# Altium schematic symbol library transistor.SchLib: 24 symbols
Pins are listed as number, name and electrical type; pins without a type are passive.

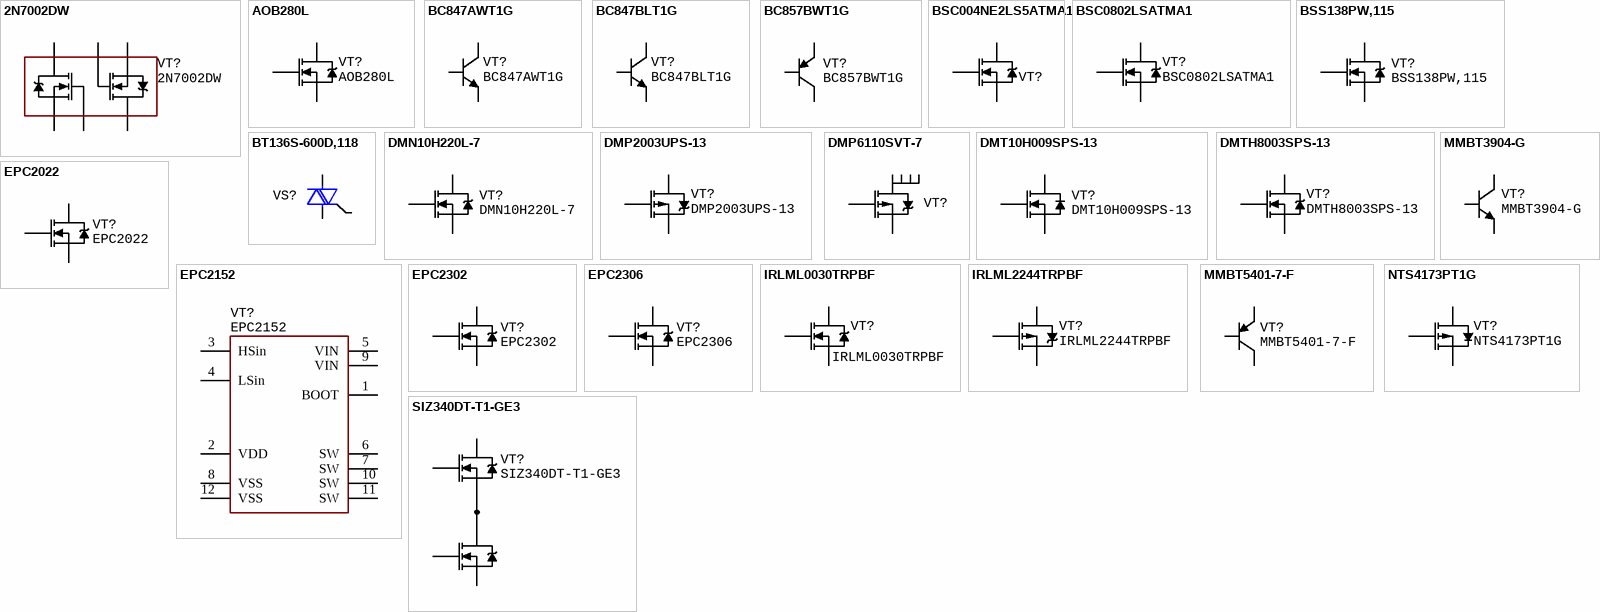
[diagram p0: symbols 2N7002DW to SIZ340DT-T1-GE3]

## 2N7002DW
designator VT?
Dual N-MOSFET, 60V, 7.5 Ohms, 2.6 nC, 1.3W, 115mA, SOT-363, -55...+150°C; Manufacturer: ON Semiconductor; Manufacturer: ON Semiconductor / Fairchild; HelpURL: https://ru.mouser.com/ProductDetail/onsemi/2N7002DW?qs=sGAEpiMZZMsKEdP9slC0YXTftDasax%2F85Ug%252BGeYsEGA%3D; Package: SOT-363; Manufacturer Part Number: 2N7002DW; Component Type: Transistors; PartNumber: 2N7002DW
footprint SC70-6
pins: 1 S, 2 G, 3 D, 4 S, 5 G, 6 D

## AOB280L
designator VT?
N-MOSFET, 80V, 2.2 mOhms, 224 nC, 2.1W, 20.5A, D2Pak, -55...+175°C; Manufacturer: Alpha & Omega; Manufacturer: Alpha & Omega Semiconductor; HelpURL: https://www.digikey.com/en/products/detail/alpha-omega-semiconductor-inc/AOB280L/4860555?s=N4IgTCBcDaIIIHkBCYAcAGAMiAugXyA; Package: D2Pak; Manufacturer Part Number: AOB280L; Component Type: Transistors; PartNumber: AOB280L
footprint D2PAK
pins: 1 G, 2 D, 3 S

## BC847AWT1G
designator VT?
NPN, 45V, 100mA, 100MHz, SC-70, -55...+150°C; Manufacturer: ON Semiconductor; Package: SC-70; HelpURL: https://ru.mouser.com/ProductDetail/onsemi/BC847AWT1G?qs=vNc2DXHODiLhGeJiJa%252BVKw%3D%3D; Manufacturer Part Number: BC847AWT1G; Component Type: Transistors; PartNumber: BC847AWT1G
footprint SC-70
pins: 1 B, 2 E, 3 C

## BC847BLT1G
designator VT?
NPN, 45V, 100mA, 100MHz, SOT-23, -55...+150°C; Manufacturer: ON Semiconductor; Package: SOT-23; HelpURL: https://eu.mouser.com/ProductDetail/onsemi/BC847BLT1G?qs=vNc2DXHODiLAH81QlkcRzw%3D%3D; Manufacturer Part Number: BC847BLT1G; Component Type: Transistors; PartNumber: BC847BLT1G
footprint SOT23
pins: 1 B, 2 E, 3 C

## BC857BWT1G
designator VT?
PNP, 45V, 100mA, 100MHz, SC-70, -55...+150°C; Manufacturer: ON Semiconductor; HelpURL: https://www.digikey.com/en/products/detail/on-semiconductor/BC857BWT1G/1476075; Package: SC-70; PartNumber: BC857BWT1G
footprint SC-70
pins: 1 B, 2 E, 3 C

## BSC004NE2LS5ATMA1
designator VT?  (value not drawn)
N-MOSFET, 25V, 0.45 mOhms, 238 nC, 2.5W, 100A, TDSON-8, -55...+150°C; Manufacturer: Infineon; Manufacturer Part Number: BSC0802LSATMA1; PartNumber: BSC004NE2LS5ATMA1; Package: TDSON-8; HelpURL: https://ru.mouser.com/ProductDetail/Infineon-Technologies/BSC004NE2LS5ATMA1?qs=%2Fha2pyFaduisj%252Bu93%252BVY%252Be%252BitOArOKCdm4Q0aqLD3LIwsnREKUbWWYvid3d3v2j%252B; Component Type: Transistors
footprint 8-TDSON (pitch 1.3 mm, power pad)
pins: 1 G, 2 D, 3 S

## BSC0802LSATMA1
designator VT?
N-MOSFET, 100V, 3.5 mOhms, 37 nC, 2.5W, 100A, TDSON-8, -55...+150°C; Manufacturer: Infineon; Package: TDSON-8; HelpURL: https://ru.mouser.com/ProductDetail/Infineon-Technologies/BSC0802LSATMA1?qs=GedFDFLaBXH2UY49TJwfpg%3D%3D; Manufacturer Part Number: BSC0802LSATMA1; Component Type: Transistors; PartNumber: BSC0802LSATMA1
footprint 8-TDSON (pitch 1.3 mm, power pad)
pins: 1 G, 2 D, 3 S

## BSS138PW,115
designator VT?
N-MOSFET, 60V, 300mA, 1.6 Ohm, 0.8nC, 50pF, SC-70, -55...+150°C; Manufacturer: Nexperia; HelpURL: https://www.digikey.com/en/products/detail/nexperia-usa-inc/BSS138PW-115/2779826; Package: SC-70; Manufacturer Part Number: BSS138PW,115; Component Type: Transistors; PartNumber: BSS138PW,115
footprint SC-70
pins: 1 G, 2 S, 3 D

## BT136S-600D,118
designator VS?  (value not drawn)
TRIAC, 600V, 4A, 1.4V, 10mA, Dpak, -40...+125°C; Manufacturer: WeEn; Manufacturer: International Rectifier; Manufacturer Part Number: IRLML2244TRPBF; HelpURL: https://eu.mouser.com/ProductDetail/WeEn-Semiconductors/BT136S-600D118?qs=me8TqzrmIYV4bBAqsrM%2FiQ%3D%3D; Package: Dpak; PartNumber: BT136S-600D,118; Component Type: Transistors
footprint DPAK
pins: 1, 2, 3

## DMN10H220L-7
designator VT?
N-MOSFET, 100V, 220 mOhms, 8.3 nC, 1.3W, 1.6A, SOT-23, -55...+150°C; Manufacturer: Diodes; HelpURL: https://ru.mouser.com/ProductDetail/Diodes-Incorporated/DMN10H220L-7?qs=M%2FOdCRO8QQ1UQcucluOqow%3D%3D; Package: SOT-23; Manufacturer Part Number: DMN10H220L-7; Component Type: Transistors; PartNumber: DMN10H220L-7
footprint SOT23
pins: 1 G, 2 S, 3 D

## DMP2003UPS-13
designator VT?
P-MOSFET, 20V, 150A, 1,7mOhm, 177nC, 570pF, 8-TDSON, -55...+150°C; Manufacturer: Diodes; HelpURL: https://nl.mouser.com/ProductDetail/Diodes-Incorporated/DMP2003UPS-13?qs=W0yvOO0ixfGERcy1OHQXQg%3D%3D; Package: 8-TDSON; PartNumber: DMP2003UPS-13
footprint 8-TDSON (pitch 1.3 mm, power pad)
pins: 1 G, 2 D, 3 S

## DMP6110SVT-7
designator VT?  (value not drawn)
P-MOSFET, 60V, 7.3A, 105mOhm, 17.2nC, 969pF, SOT-23-6, -55...+150°C; Manufacturer: Infineon Technologies; Manufacturer: Diodes; PartNumber: DMP6110SVT-7; Package: SOT-23-6; HelpURL: https://www.digikey.com/product-detail/en/infineon-technologies/IRLML2246TRPBF/IRLML2246TRPBFCT-ND/2639576; Manufacturer Part Number: DMP6110SVT-7; Component Type: Transistors
footprint SOT23-6 (pitch 0.95 mm)
pins: 1 D, 2 D, 3 G, 4 S, 5 D, 6 D

## DMT10H009SPS-13
designator VT?
N-MOSFET, 100V, 8.5 mOhms, 30 nC, 2.5W, 80A, TDSON-8, -55...+150°C; Manufacturer: Diodes; Package: TDSON-8; HelpURL: https://eu.mouser.com/ProductDetail/Diodes-Incorporated/DMT10H009SPS-13?qs=gZXFycFWdAPn%252Bp%2Fd1wMNwg%3D%3D; PartNumber: DMT10H009SPS-13
footprint 8-TDSON (pitch 1.3 mm, power pad)
pins: 1 G, 2 D, 3 S

## DMTH8003SPS-13
designator VT?
N-MOSFET, 80V, 3.9 mOhms, 124 nC, 2.5W, 100A, TDSON-8, -55...+175°C; Manufacturer: Diodes; Package: TDSON-8; HelpURL: https://nl.mouser.com/ProductDetail/Diodes-Incorporated/DMTH8003SPS-13?qs=fAHHVMwC%252BbjFPwZ285SuFQ%3D%3D; PartNumber: DMTH8003SPS-13
footprint 8-TDSON (pitch 1.3 mm, power pad)
pins: 1 G, 2 D, 3 S

## EPC2022
designator VT?
GaN, 100V, 3.2 mOhms, 13 nC, 90A, case 6.05x2.3 mm, -40...+150°C; Manufacturer: EPC; Package: 6.05x2.3 mm; HelpURL: https://epc-co.com/epc/Products/eGaNFETsandICs/EPC2022.aspx; Manufacturer Part Number: EPC2022; Component Type: Transistors; PartNumber: EPC2022
footprint EPC2022 (GaN, 6.05x2.3)
pins: 1 G, 2 D, 3 S

## EPC2152
designator VT?
GaN, 100V, 1.8 mOhms, 29 nC, 101A, case 5x3 mm, -40...+150°C; Manufacturer: EPC; Package: 4x3 mm; HelpURL: https://epc-co.com/epc/products/gan-fets-and-ics/epc2152; PartNumber: EPC2152
footprint EPC2152
pins: 1 BOOT, 2 VDD, 3 HSin, 4 LSin, 5 VIN, 6 SW, 7 SW, 8 VSS, 9 VIN, 10 SW, 11 SW, 12 VSS

## EPC2302
designator VT?
GaN, 100V, 1.8 mOhms, 29 nC, 101A, case 5x3 mm, -40...+150°C; Manufacturer: EPC; Package: 5x3 mm; HelpURL: https://epc-co.com/epc/products/gan-fets-and-ics/epc2302; PartNumber: EPC2302
footprint EPC2302 (QFN3x5 100V Full Die)
pins: 1 G, 2 S, 3 D

## EPC2306
designator VT?
GaN, 100V, 3.8 mOhms, 29 nC, 48A, case 5x3 mm, -40...+150°C; Manufacturer: EPC; Package: 5x3 mm; HelpURL: https://epc-co.com/epc/products/gan-fets-and-ics/epc2306; PartNumber: EPC2306
footprint EPC2306 (QFN3x5 100V Half Die)
pins: 1 G, 2 S, 3 D

## IRLML0030TRPBF
designator VT?
N-MOSFET, 30V, 27 mOhms, 2.6 nC, 1.3W, 5.3A, SOT-23, -55...+150°C; Manufacturer: Infineon; Manufacturer: International Rectifier; HelpURL: https://ru.mouser.com/ProductDetail/Infineon-IR/IRLML0030TRPBF?qs=%2Fha2pyFaduheTAhzJqsWt8uP6kaFFXPDIBkWUj0rWVXHN0D8P7OuGg%3D%3D; Package: SOT-23; Manufacturer Part Number: IRLML0030TRPBF; Component Type: Transistors; PartNumber: IRLML0030TRPBF
footprint SOT23
pins: 1 G, 2 S, 3 D

## IRLML2244TRPBF
designator VT?
P-MOSFET, 20V, 4.3A, 54mOhm, 6.9nC, 570pF, SOT-23, -55...+150°C; Manufacturer: Infineon Technologies; Manufacturer: International Rectifier; HelpURL: https://www.digikey.com/en/products/detail/infineon-technologies/IRLML2244TRPBF/2639564; Package: SOT-23; PartNumber: IRLML2244TRPBF
footprint SOT23
pins: 1 G, 2 S, 3 D

## MMBT3904-G
designator VT?
NPN, 40V, 200mA, 300MHz, SOT-23, -55...+150°C; Manufacturer: Comchip; HelpURL: https://ru.mouser.com/ProductDetail/Comchip-Technology/MMBT3904-G?qs=2qJf6qQ4IOJ0TxLo2V5E6Q%3D%3D; Package: SOT-23; Manufacturer Part Number: MMBT3904-G; Component Type: Transistors; PartNumber: MMBT3904-G
footprint SOT23
pins: 1 B, 2 E, 3 C

## MMBT5401-7-F
designator VT?
PNP, 150V, 200mA, 300MHz, SOT-23, -55...+150°C; Manufacturer: ON Semiconductor; Manufacturer: Diodes Zetex; HelpURL: https://www.digikey.com/en/products/detail/on-semiconductor/BC857BWT1G/1476075; Package: SC-70; Manufacturer Part Number: MMBT5401-7-F; Component Type: Transistors; PartNumber: MMBT5401-7-F
footprint SOT23
pins: 1 B, 2 E, 3 C

## NTS4173PT1G
designator VT?
P-MOSFET, 30V, 1.3A, 150mOhm, 4.8nC, 570pF, SC-70, -55...+150°C; Manufacturer: ON Semiconductor; Package: SC-70; HelpURL: https://eu.mouser.com/ProductDetail/onsemi/NTS4173PT1G?qs=N5dOQkml4H%2F0%252BASO5NtUaw%3D%3D; Manufacturer Part Number: NTS4173PT1G; Component Type: Transistors; PartNumber: NTS4173PT1G
footprint SC-70
pins: 1 G, 2 S, 3 D

## SIZ340DT-T1-GE3
designator VT?
N-MOSFET, 30V, 5.1 mOhms, 19 nC, 40A, DFN-8, -55...+150°C; Manufacturer: Vishay; Package: DFN-8; HelpURL: https://eu.mouser.com/ProductDetail/Vishay-Semiconductors/SIZ340DT-T1-GE3?qs=xy8ZAJ6gwcgNnVRA2xZL2A%3D%3D; PartNumber: SIZ340DT-T1-GE3
footprint SIZ340DT-T1-GE3 (3x3 mm, pitch 0.65 mm, power pad)
pins: D1, G1, G2, S1, S2